# Altium footprint library PCB封装.PcbLib: 150 footprints (part 9 of 10)
Each footprint in its own frame and in the unit in brackets; x right, y up, seen from the top. Pads: shape width x height; smd on the part's side, far side on the other; paste and mask are expansions set on the pad; w line width, h text height; cw(c..) or ccw(c..) is an arc to the next point about the centre after c.
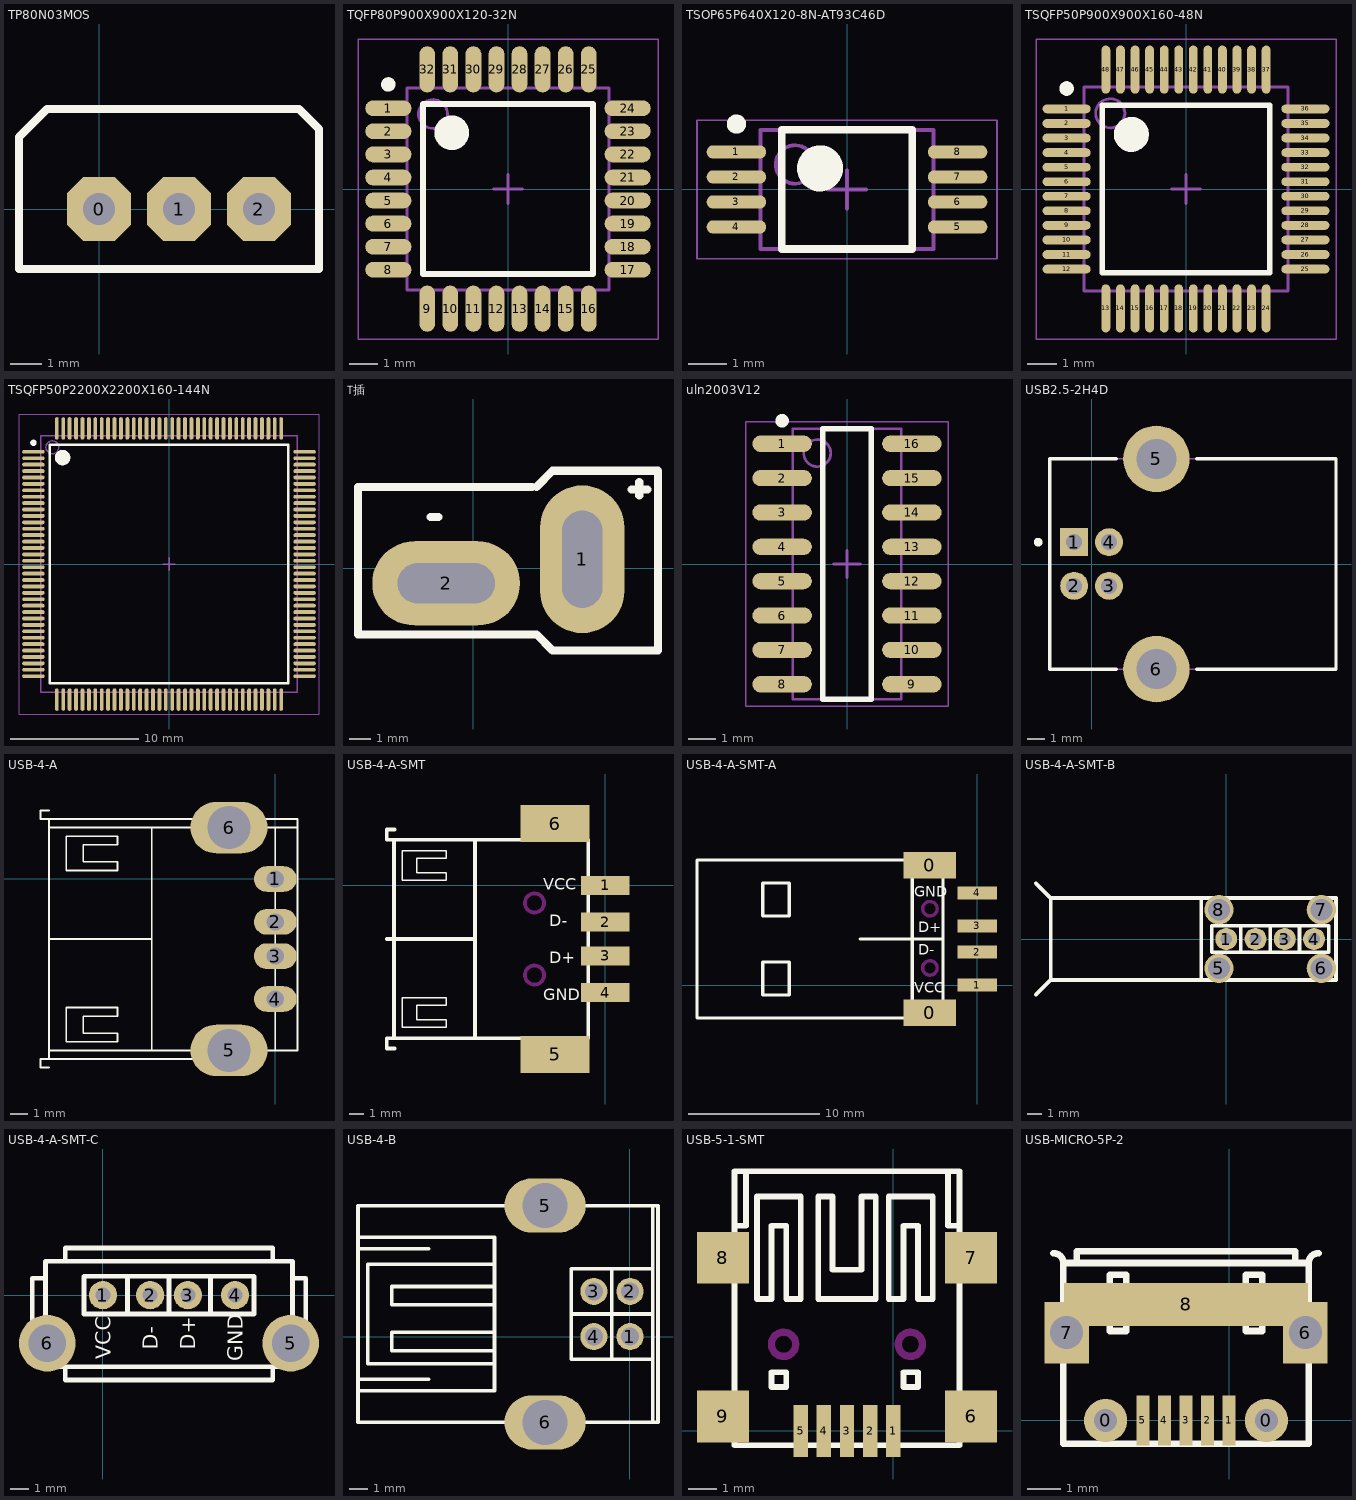
[diagram p8: the footprints below, top view; thin cyan lines are the x and y axes]

## TP80N03MOS [mil]
pads (3):
  oct 80x80 hole 40: 0(0,0) 1(100,0) 2(200,0)
Top Overlay:
  lines w10: -100,-75 -100,75 -100,90 -65,125 250,125 275,100 275,-75 -100,-75

## TQFP80P900X900X120-32N [mm] "TQFP, 32-Leads, Body 7.00x7.00mm, Pitch 0.80mm, IPC Medium Density"
height 1.2
pads (32):
  oval 1.6x0.55 smd: 1(-4.15,2.8) 2(-4.15,2) 3(-4.15,1.2) 4(-4.15,0.4) 5(-4.15,-0.4) 6(-4.15,-1.2) 7(-4.15,-2) 8(-4.15,-2.8) 17(4.15,-2.8) 18(4.15,-2) 19(4.15,-1.2) 20(4.15,-0.4) 21(4.15,0.4) 22(4.15,1.2) 23(4.15,2) 24(4.15,2.8)
  oval 0.55x1.6 smd: 9(-2.8,-4.15) 10(-2,-4.15) 11(-1.2,-4.15) 12(-0.4,-4.15) 13(0.4,-4.15) 14(1.2,-4.15) 15(2,-4.15) 16(2.8,-4.15) 25(2.8,4.15) 26(2,4.15) 27(1.2,4.15) 28(0.4,4.15) 29(-0.4,4.15) 30(-1.2,4.15) 31(-2,4.15) 32(-2.8,4.15)
Top Overlay:
  circle w0.6: c-1.95,1.95 r0.3
  circle w0.25: c-4.15,3.625 r0.125
  lines w0.2: -2.95,-2.95 2.95,-2.95 2.95,2.95 -2.95,2.95 -2.95,-2.95
Mechanical 13:
  circle w0.1: c-2.6,2.6 r0.5
  lines w0.1: -3.5,-3.5 3.5,-3.5 3.5,3.5 -3.5,3.5 -3.5,-3.5
Mechanical 15:
  lines w0.05: -5.2,-5.2 5.2,-5.2 5.2,5.2 -5.2,5.2 -5.2,-5.2
  lines w0.1: -0.5,0 0.5,0 ; 0,-0.5 0,0.5
3D body: height 1.2, standoff 0.1, extent -3.5,-3.5 3.5,3.5

## TSOP65P640X120-8N-AT93C46D [mm] "TSOP, 8-Leads, Body 3.00x4.40mm, Pitch 0.65mm, IPC Medium Density"
height 1.2
pads (8):
  oval 1.55x0.35 smd: 1(-2.875,0.975) 2(-2.875,0.325) 3(-2.875,-0.325) 4(-2.875,-0.975) 5(2.875,-0.975) 6(2.875,-0.325) 7(2.875,0.325) 8(2.875,0.975)
Top Overlay:
  circle w0.6: c-0.7,0.55 r0.3
  circle w0.25: c-2.875,1.7 r0.125
  lines w0.2: -1.7,-1.55 1.7,-1.55 1.7,1.55 -1.7,1.55 -1.7,-1.55
Mechanical 13:
  circle w0.1: c-1.35,0.65 r0.5
  lines w0.1: -2.25,-1.55 2.25,-1.55 2.25,1.55 -2.25,1.55 -2.25,-1.55
Mechanical 15:
  lines w0.05: -3.9,-1.8 3.9,-1.8 3.9,1.8 -3.9,1.8 -3.9,-1.8
  lines w0.1: -0.5,0 0.5,0 ; 0,-0.5 0,0.5
3D body: height 1.2, standoff 0.1, extent -2.25,-1.55 2.25,1.55

## TSQFP50P900X900X160-48N [mm] "TSQFP, 48-Leads,FTDI FT2232D"
height 1.6
pads (48):
  oval 1.65x0.3 smd: 1(-4.1,2.75) 2(-4.1,2.25) 3(-4.1,1.75) 4(-4.1,1.25) 5(-4.1,0.75) 6(-4.1,0.25) 7(-4.1,-0.25) 8(-4.1,-0.75) 9(-4.1,-1.25) 10(-4.1,-1.75) 11(-4.1,-2.25) 12(-4.1,-2.75) 25(4.1,-2.75) 26(4.1,-2.25) 27(4.1,-1.75) 28(4.1,-1.25) 29(4.1,-0.75) 30(4.1,-0.25) 31(4.1,0.25) 32(4.1,0.75) 33(4.1,1.25) 34(4.1,1.75) 35(4.1,2.25) 36(4.1,2.75)
  oval 0.3x1.65 smd: 13(-2.75,-4.1) 14(-2.25,-4.1) 15(-1.75,-4.1) 16(-1.25,-4.1) 17(-0.75,-4.1) 18(-0.25,-4.1) 19(0.25,-4.1) 20(0.75,-4.1) 21(1.25,-4.1) 22(1.75,-4.1) 23(2.25,-4.1) 24(2.75,-4.1) 37(2.75,4.1) 38(2.25,4.1) 39(1.75,4.1) 40(1.25,4.1) 41(0.75,4.1) 42(0.25,4.1) 43(-0.25,4.1) 44(-0.75,4.1) 45(-1.25,4.1) 46(-1.75,4.1) 47(-2.25,4.1) 48(-2.75,4.1)
Top Overlay:
  circle w0.6: c-1.875,1.875 r0.3
  circle w0.25: c-4.1,3.45 r0.125
  lines w0.2: -2.875,-2.875 2.875,-2.875 2.875,2.875 -2.875,2.875 -2.875,-2.875
Mechanical 13:
  circle w0.1: c-2.6,2.6 r0.5
  lines w0.1: -3.5,-3.5 3.5,-3.5 3.5,3.5 -3.5,3.5 -3.5,-3.5
Mechanical 15:
  lines w0.05: -5.15,-5.15 5.15,-5.15 5.15,5.15 -5.15,5.15 -5.15,-5.15
  lines w0.1: -0.5,0 0.5,0 ; 0,-0.5 0,0.5
3D body: height 1.6, standoff 0.25, extent -3.5,-3.5 3.5,3.5

## TSQFP50P2200X2200X160-144N [mm] "TSQFP, 144-Leads, Body 20.00x20.00mm, Pitch 0.50mm, IPC Medium Density"
height 1.6
pads (144):
  oval 1.75x0.3 smd: 1(-10.575,8.75) 2(-10.575,8.25) 3(-10.575,7.75) 4(-10.575,7.25) 5(-10.575,6.75) 6(-10.575,6.25) 7(-10.575,5.75) 8(-10.575,5.25) 9(-10.575,4.75) 10(-10.575,4.25) 11(-10.575,3.75) 12(-10.575,3.25) 13(-10.575,2.75) 14(-10.575,2.25) 15(-10.575,1.75) 16(-10.575,1.25) 17(-10.575,0.75) 18(-10.575,0.25) 19(-10.575,-0.25) 20(-10.575,-0.75) 21(-10.575,-1.25) 22(-10.575,-1.75) 23(-10.575,-2.25) 24(-10.575,-2.75) 25(-10.575,-3.25) 26(-10.575,-3.75) 27(-10.575,-4.25) 28(-10.575,-4.75) 29(-10.575,-5.25) 30(-10.575,-5.75) 31(-10.575,-6.25) 32(-10.575,-6.75) 33(-10.575,-7.25) 34(-10.575,-7.75) 35(-10.575,-8.25) 36(-10.575,-8.75) 73(10.575,-8.75) 74(10.575,-8.25) 75(10.575,-7.75) 76(10.575,-7.25) 77(10.575,-6.75) 78(10.575,-6.25) 79(10.575,-5.75) 80(10.575,-5.25) 81(10.575,-4.75) 82(10.575,-4.25) 83(10.575,-3.75) 84(10.575,-3.25) 85(10.575,-2.75) 86(10.575,-2.25) 87(10.575,-1.75) 88(10.575,-1.25) 89(10.575,-0.75) 90(10.575,-0.25) 91(10.575,0.25) 92(10.575,0.75) 93(10.575,1.25) 94(10.575,1.75) 95(10.575,2.25) 96(10.575,2.75) 97(10.575,3.25) 98(10.575,3.75) 99(10.575,4.25) 100(10.575,4.75) 101(10.575,5.25) 102(10.575,5.75) 103(10.575,6.25) 104(10.575,6.75) 105(10.575,7.25) 106(10.575,7.75) 107(10.575,8.25) 108(10.575,8.75)
  oval 0.3x1.75 smd: 37(-8.75,-10.575) 38(-8.25,-10.575) 39(-7.75,-10.575) 40(-7.25,-10.575) 41(-6.75,-10.575) 42(-6.25,-10.575) 43(-5.75,-10.575) 44(-5.25,-10.575) 45(-4.75,-10.575) 46(-4.25,-10.575) 47(-3.75,-10.575) 48(-3.25,-10.575) 49(-2.75,-10.575) 50(-2.25,-10.575) 51(-1.75,-10.575) 52(-1.25,-10.575) 53(-0.75,-10.575) 54(-0.25,-10.575) 55(0.25,-10.575) 56(0.75,-10.575) 57(1.25,-10.575) 58(1.75,-10.575) 59(2.25,-10.575) 60(2.75,-10.575) 61(3.25,-10.575) 62(3.75,-10.575) 63(4.25,-10.575) 64(4.75,-10.575) 65(5.25,-10.575) 66(5.75,-10.575) 67(6.25,-10.575) 68(6.75,-10.575) 69(7.25,-10.575) 70(7.75,-10.575) 71(8.25,-10.575) 72(8.75,-10.575) 109(8.75,10.575) 110(8.25,10.575) 111(7.75,10.575) 112(7.25,10.575) 113(6.75,10.575) 114(6.25,10.575) 115(5.75,10.575) 116(5.25,10.575) 117(4.75,10.575) 118(4.25,10.575) 119(3.75,10.575) 120(3.25,10.575) 121(2.75,10.575) 122(2.25,10.575) 123(1.75,10.575) 124(1.25,10.575) 125(0.75,10.575) 126(0.25,10.575) 127(-0.25,10.575) 128(-0.75,10.575) 129(-1.25,10.575) 130(-1.75,10.575) 131(-2.25,10.575) 132(-2.75,10.575) 133(-3.25,10.575) 134(-3.75,10.575) 135(-4.25,10.575) 136(-4.75,10.575) 137(-5.25,10.575) 138(-5.75,10.575) 139(-6.25,10.575) 140(-6.75,10.575) 141(-7.25,10.575) 142(-7.75,10.575) 143(-8.25,10.575) 144(-8.75,10.575)
Top Overlay:
  circle w0.25: c-10.575,9.45 r0.125
  circle w0.6: c-8.3,8.3 r0.3
  lines w0.2: -9.3,-9.3 -9.3,9.3 9.3,9.3 9.3,-9.3 -9.3,-9.3
Mechanical 13:
  circle w0.1: c-9.1,9.1 r0.5
  lines w0.1: -10,-10 -10,10 10,10 10,-10 -10,-10
Mechanical 15:
  lines w0.05: -11.7,-11.7 -11.7,11.7 11.7,11.7 11.7,-11.7 -11.7,-11.7
  lines w0.1: -0.5,0 0.5,0 ; 0,-0.5 0,0.5
3D body: height 1.6, standoff 0.05, extent -10,-10 10,10

## T插 [mm]
height 5
pads (2):
  oval 4x7 hole 1.9 slot 4.6 at 90 deg: 1(5.161,0.416)
  oval 7x4 hole 1.9 slot 4.6 at 0 deg: 2(-1.283,-0.727)
Top Overlay:
  lines w0.381: -2.032,2.413 -1.651,2.413 ; 2.781,3.845 2.146,3.845 -5.461,3.845 -5.461,-3.14 2.146,-3.14 2.781,-3.14 2.988,-3.14 3.75,-3.902 8.75,-3.902 ; 2.988,3.845 3.75,4.607 8.75,4.607 8.75,-3.893 ; 7.493,3.718 8.255,3.718 ; 7.861,3.429 7.861,4.064

## uln2003V12 [mm] "SOIC, 16-Leads, Body 9.90x3.90mm, Pitch 1.27mm, IPC Medium Density"
height 1.75
pads (16):
  oval 2.2x0.6 smd: 1(-2.4,4.445) 2(-2.4,3.175) 3(-2.4,1.905) 4(-2.4,0.635) 5(-2.4,-0.635) 6(-2.4,-1.905) 7(-2.4,-3.175) 8(-2.4,-4.445) 9(2.4,-4.445) 10(2.4,-3.175) 11(2.4,-1.905) 12(2.4,-0.635) 13(2.4,0.635) 14(2.4,1.905) 15(2.4,3.175) 16(2.4,4.445)
Top Overlay:
  circle w0.25: c-2.4,5.295 r0.125
  lines w0.2: -0.9,-5 -0.9,5 0.9,5 0.9,-5 -0.9,-5
Mechanical 13:
  circle w0.1: c-1.1,4.1 r0.5
  lines w0.1: -2,-5 -2,5 2,5 2,-5 -2,-5
Mechanical 15:
  lines w0.05: -3.75,-5.25 -3.75,5.25 3.75,5.25 3.75,-5.25 -3.75,-5.25
  lines w0.1: -0.5,0 0.5,0 ; 0,-0.5 0,0.5
3D body: height 1.75, standoff 0.25, extent -2,-5 2,5

## USB2.5-2H4D [mm] "USB1.1, Type B_方口插座"
height 11.1
pads (6):
  rect 1.6x1.6 hole 0.92: 1(-1,1.25)
  round 1.6 hole 0.92: 2(-1,-1.25) 3(1,-1.25) 4(1,1.25)
  round 3.8 hole 2.3: 5(3.71,6.02) 6(3.71,-6.02)
Top Overlay:
  circle w0.25: c-3.06,1.25 r0.125
  lines w0.2: 1.41,-6.02 -2.41,-6.02 -2.41,6.02 1.41,6.02 ; 6.01,-6.02 13.99,-6.02 13.99,6.02 6.01,6.02
Mechanical 13:
  lines w0.1: -2.41,-6.02 13.99,-6.02 13.99,6.02 -2.41,6.02 -2.41,-6.02
3D body: height 11.1, standoff 0, extent -2.41,-6.02 13.99,6.02

## USB-4-A [mm]
pads (6):
  oval 2.5x1.5 hole 1: 1(0,0) 2(0,-2.5) 3(0,-4.5) 4(0,-7)
  oval 4.5x3 hole 2.5: 5(-2.7,-10) 6(-2.7,3)
Top Overlay:
  lines w0.1: -13.2,-11 -13.7,-11 -13.7,-10.5 -13.2,-10.5 ; -13.2,3 -2.7,3 ; -13.2,4 -13.7,4 -13.7,3.5 -13.2,3.5 ; -7.2,-10 -7.2,3 ; -7.2,-3.5 -13.2,-3.5 -13.2,-10.5 ; -2.7,-10.5 -2.7,-10 -13.2,-10 0,-10 ; -2.7,3.5 -2.7,3 ; -1.7,-10.5 -13.2,-10.5 ; 0,3 0,-10 ; 1.3,3 -2.7,3 ; -13.2,-10.5 -13.2,3.5 ; -13.2,3.5 1.3,3.5 1.3,-3.5 1.3,-10 0,-10 ; -12.2,-9.5 -12.2,-8 -12.2,-7.5 -9.2,-7.5 -9.2,-8 -11.2,-8 -11.2,-9 -9.2,-9 -9.2,-9.5 -12.2,-9.5 ; -12.2,0.5 -12.2,2 -12.2,2.5 -9.2,2.5 -9.2,2 -11.2,2 -11.2,1 -9.2,1 -9.2,0.5 -12.2,0.5
Bottom Overlay:
  lines w0.1: -13.2,-11 -13.7,-11 -13.7,-10.5 -13.2,-10.5 ; -13.2,-3.5 -7.2,-3.5 ; -13.2,3.5 -13.2,3 ; -13.2,4 -13.7,4 -13.7,3.5 1.3,3.5 1.3,-10 ; 0,-10 0,3 ; 1.3,3 -13.2,3 ; -13.2,-10.5 -13.2,-10 1.3,-10 ; -13.2,-10.5 1.3,-10.5 1.3,-10 ; -13.2,-10.5 -13.2,3
  text "VCC" at -1.524,-0.396 h1
  text "D-" at -2.032,-2.936 h1
  text "D+" at -2.032,-4.968 h1
  text "GND" at -2.032,-7.508 h1

## USB-4-A-SMT [mm]
pads (6):
  rect 3.3x1.3 smd: 1(0,0) 2(0,-2.5) 3(0,-4.8) 4(0,-7.3)
  rect 4.7x2.5 smd: 5(-3.4,-11.5) 6(-3.4,4.2)
Top Overlay:
  lines w0.1: -13.8,-9.65 -10.8,-9.65 -10.8,-9.15 -12.8,-9.15 -12.8,-8.15 -10.8,-8.15 -10.8,-7.65 -13.8,-7.65 -13.8,-8.15 -13.8,-9.65 ; -13.8,0.35 -10.8,0.35 -10.8,0.85 -12.8,0.85 -12.8,1.85 -10.8,1.85 -10.8,2.35 -13.8,2.35 -13.8,1.85 -13.8,0.35
  lines w0.254: -14.85,-3.65 -8.85,-3.65 ; -14.35,-10.4 -14.35,3.1 ; -14.3,-11.1 -14.85,-11.1 -14.85,-10.4 -1.15,-10.4 -1.15,3.1 -14.85,3.1 -14.85,3.8 -14.3,3.8 ; -8.85,-10.4 -8.85,3.1
  text "VCC" at -4.2,-0.3 h0.8
  text "GND" at -4.2,-7.8 h0.8
  text "D-" at -3.8,-2.8 h0.8
  text "D+" at -3.8,-5.3 h0.8
Bottom Overlay:
  lines w0.254: -14.35,-10.4 -14.35,3.1 ; -14.35,-3.65 -8.85,-3.65 ; -14.3,-11.1 -14.85,-11.1 -14.85,-10.4 -1.15,-10.4 -1.15,3.1 -14.85,3.1 -14.85,3.8 -14.3,3.8 ; -13.8,-9.65 -13.8,-7.65 -10.8,-7.65 -10.8,-8.15 -12.8,-8.15 -12.8,-9.15 -10.8,-9.15 -10.8,-9.65 -13.8,-9.65 ; -13.8,0.35 -13.8,2.35 -10.8,2.35 -10.8,1.85 -12.8,1.85 -12.8,0.85 -10.8,0.85 -10.8,0.35 -13.8,0.35
Keep-Out Layer:
  circle w0.254: c-4.8,-6.1 r0.65
  circle w0.254: c-4.8,-1.2 r0.65

## USB-4-A-SMT-A [mm]
pads (6):
  rect 4x2 smd: 0(-3.6,-2.1) 0(-3.6,9.1)
  rect 3x1 smd: 1(0,0) 2(0,2.5) 3(0,4.5) 4(0,7)
Top Overlay:
  lines w0.254: -8.9,3.5 -2.6,3.5 ; -4.95,-2.5 -4.95,9.5 ; -21.3,-2.5 -2.6,-2.5 -2.6,9.5 -21.3,9.5 -21.3,-2.5 ; -16.3,-0.75 -16.3,1.75 -14.3,1.75 -14.3,-0.75 -16.3,-0.75 ; -16.3,5.25 -14.3,5.25 -14.3,7.75 -16.3,7.75 -16.3,5.25
  text "D+" at -4.5,4 h0.8
  text "D-" at -4.5,2.3 h0.8
  text "GND" at -4.8,6.7 h0.8
  text "VCC" at -4.8,-0.6 h0.8
Keep-Out Layer:
  circle w0.254: c-3.6,5.8 r0.55
  circle w0.254: c-3.6,1.3 r0.55
Mechanical 1:
  lines w0.254: -4.85,-2.6 -4.85,-1.6 -2.35,-1.6 -2.35,-2.6 -4.85,-2.6 ; -4.85,8.6 -4.85,9.6 -2.35,9.6 -2.35,8.6 -4.85,8.6

## USB-4-A-SMT-B [mm]
pads (8):
  round 1.5 hole 0.8: 1(0,0) 2(2,0) 3(4,0) 4(6,0)
  round 2 hole 1.5: 5(-0.5,-2) 6(6.5,-2) 7(6.5,2) 8(-0.5,2)
Top Overlay:
  lines w0.254: -13,-3.8 -12,-2.8 ; -13,3.8 -12,2.8 ; -1.7,-2.7 -1.7,2.8 ; 1,-0.9 1,0.9 ; 3,-0.9 3,0.9 ; 5,-0.9 5,0.9 ; -12,-2.8 7.5,-2.8 7.5,2.8 -12,2.8 ; -12,-2.8 -12,2.8 ; -1,-0.9 7,-0.9 7,0.9 -1,0.9 -1,-0.9
Bottom Overlay:
  lines w0.254: -13,-3.8 -12,-2.8 ; -13,3.8 -12,2.8 ; -1.7,-2.8 -1.7,2.8 ; 1,-0.9 1,0.9 ; 3,-0.9 3,0.9 ; 5,-0.9 5,0.9 ; -12,-2.8 -12,2.8 ; -12,-2.8 7.5,-2.8 7.5,2.8 -12,2.8 ; -1,-0.9 7,-0.9 7,0.9 -1,0.9 -1,-0.9

## USB-4-A-SMT-C [mm]
pads (6):
  round 1.5 hole 0.8: 1(0,0) 2(2.5,0) 3(4.5,0) 4(7,0)
  round 3 hole 2: 5(9.95,-2.55) 6(-2.95,-2.55)
Top Overlay:
  lines w0.254: -3.05,-2.9 -3.75,-2.9 -3.75,0.9 -3.05,0.9 ; -2,-3.8 -2,-4.5 9,-4.5 9,-3.8 ; -2,1.8 -2,2.5 9,2.5 9,1.8 ; 1.3,-1 1.3,1 ; 3.5,-1 3.5,1 ; 5.7,-1 5.7,1 ; 10.05,-2.9 10.75,-2.9 10.75,0.9 10.05,0.9 ; -3.05,-3.8 -3.05,1.8 10.05,1.8 10.05,-3.8 -3.05,-3.8 ; -1,-1 8,-1 8,1 -1,1 -1,-1
  text "GND" at 7.4,-3.5 h0.8
  text "D+" at 4.9,-2.9 h0.8
  text "D-" at 2.9,-2.9 h0.8
  text "VCC" at 0.4,-3.4 h0.8
Bottom Overlay:
  lines w0.254: 1.3,-1 1.3,1 ; 3.5,-1 3.5,1 ; 5.7,-1 5.7,1 ; -3.1,-3.8 10.1,-3.8 10.1,1.8 -3.1,1.8 -3.1,-3.8 ; -1,-1 8,-1 8,1 -1,1 -1,-1

## USB-4-B [mm]
pads (6):
  round 1.5 hole 1: 1(0,0) 2(0,2.5) 3(-2,2.5) 4(-2,0)
  oval 4.5x3 hole 2.5: 5(-4.7,7.25) 6(-4.7,-4.75)
Top Overlay:
  lines w0.2: -15.05,-3 -7.5,-3 -7.5,5.5 -15.05,5.5 ; -15.05,-2.35 -11.144,-2.35 ; -15.05,4.85 -11.144,4.85 ; -7.5,-1.5 -14.5,-1.5 -14.5,4 -7.5,4 ; -7.5,-0.782 -13.176,-0.782 -13.176,0.234 -7.5,0.234 ; -7.5,1.758 -13.176,1.758 -13.176,2.774 -7.5,2.774 ; -3.25,1.25 1.25,1.25 ; -1,-1.25 -1,3.75 ; 1.25,-4.75 1.25,7.25 ; 1.25,-1.25 -3.25,-1.25 -3.25,3.75 1.25,3.75 ; -15.05,-4.75 1.55,-4.75 1.55,7.25 -15.05,7.25 -15.05,-4.75
Bottom Overlay:
  lines w0.2: -3.25,1.25 1.25,1.25 ; -1,-1.25 -1,3.75 ; 1.25,-4.75 1.25,7.25 ; 1.25,-1.25 -3.25,-1.25 -3.25,3.75 1.25,3.75 ; -15.05,-4.75 1.55,-4.75 1.55,7.25 -15.05,7.25 -15.05,-4.75
  text "D-" at -0.476,4.298 h1
  text "GND" at -2.508,-4.338 h1
  text "D+" at -2.508,4.298 h1
  text "VCC" at -0.476,-4.338 h1

## USB-5-1-SMT [mm]
pads (9):
  rect 0.5x1.8 smd: 1(0,0) 2(-0.8,0) 3(-1.6,0) 4(-2.4,0) 5(-3.2,0)
  rect 1.8x1.8 smd: 6(2.7,0.5) 7(2.7,6) 8(-5.9,6) 9(-5.9,0.5)
Top Overlay:
  lines w0.2: -5.5,7.112 -5.1,7.112 -5.1,9 ; 1.9,9 1.9,7.112 2.3,7.112 ; -5.5,-0.5 -5.5,9 2.3,9 2.3,-0.5 -5.5,-0.5 ; -4.724,4.572 -4.724,8.128 -3.2,8.128 -3.2,4.572 -3.708,4.572 -3.708,7.112 -4.216,7.112 -4.216,4.572 -4.724,4.572 ; -4.216,1.524 -3.708,1.524 -3.708,2.032 -4.216,2.032 -4.216,1.524 ; -2.6,4.572 -0.6,4.572 -0.6,8.128 -1.1,8.128 -1.1,5.588 -2.1,5.588 -2.1,8.128 -2.6,8.128 -2.6,4.572 ; -0.152,4.572 -0.152,8.128 1.372,8.128 1.372,4.572 0.864,4.572 0.864,7.112 0.356,7.112 0.356,4.572 -0.152,4.572 ; 0.356,1.524 0.864,1.524 0.864,2.032 0.356,2.032 0.356,1.524
Bottom Overlay:
  lines w0.2: -5.5,7.112 -5.1,7.112 -5.1,9 ; 1.9,9 1.9,7.112 2.3,7.112 ; -5.5,-0.5 -5.5,9 2.3,9 2.3,-0.5 -5.5,-0.5
Keep-Out Layer:
  circle w0.254: c0.6,3 r0.42
  circle w0.254: c-3.8,3 r0.42

## USB-MICRO-5P-2 [mm]
pads (10):
  round 1.3 hole 0.7: 0(-3.725,0) 0(1.125,0)
  rect 0.4x1.5 smd: 1(0,0) 2(-0.65,0) 3(-1.3,0) 4(-1.95,0) 5(-2.6,0)
  rect 1.35x1.85 hole 1: 6(2.3,2.65) 7(-4.9,2.65)
  rect 7.35x1.3 smd: 8(-1.3,3.5)
Top Overlay:
  lines w0.2: -5.3,5.05 cw(c-5.3,4.75) -5,4.75 2.4,4.75 cw(c2.7,4.75) 2.7,5.05 ; -5,4.8 -5,-0.7 2.4,-0.7 2.4,4.8 ; -4.6,4.75 -4.6,5.1 2,5.1 2,4.75 ; -3.6,2.7 -3.1,2.7 -3.1,4.4 -3.6,4.4 -3.6,2.7 ; 0.5,2.7 1,2.7 1,4.4 0.5,4.4 0.5,2.7
Bottom Overlay:
  lines w0.2: -5.3,-0.7 2.7,-0.7 2.7,5.1 -5.3,5.1 -5.3,-0.7